# EAGLE library part SN75240 (library ublox)
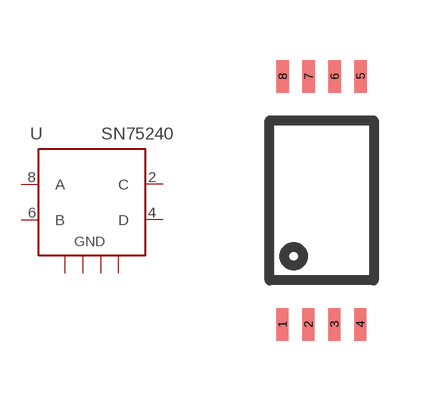
[diagram p9: symbol with the pads of TSSOP_8P; footprint TSSOP_8P]

Designator prefix -

## SN75240  [TSSOP_8P]
1  GND
2  C
3  GND
4  D
5  GND
6  B
7  GND
8  A

## Footprint TSSOP_8P (pad centres in mm)
smd 0.305 x 0.813: 1 -0.98,-3.1; 2 -0.33,-3.1; 3 0.32,-3.1; 4 0.97,-3.1; 5 0.975,3.1; 6 0.325,3.1; 7 -0.325,3.1; 8 -0.975,3.1